# EAGLE library part EC2-3NU (library MMC Eagle)
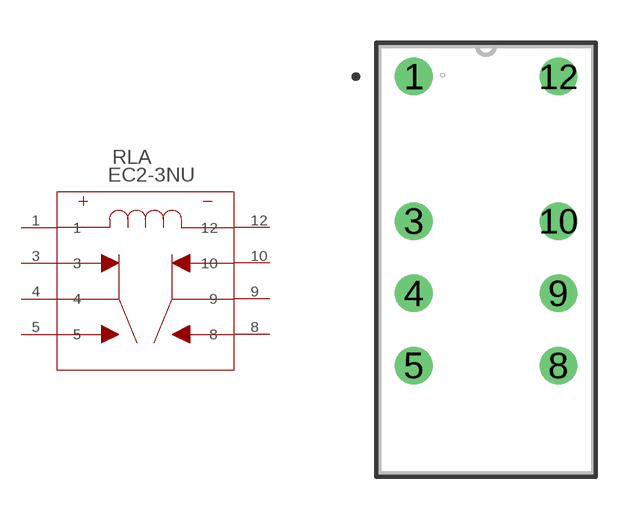
[diagram p4: symbol with the pads of RELAY8_EC2; footprint RELAY8_EC2]

Designator prefix RLA

## EC2-3NU (MANUFACTURER_PART_NUMBER: EC23NU; VENDOR: KEMET)  [RELAY8_EC2]
1  1  pas
3  3  pas
4  4  pas
5  5  pas
8  8  pas
9  9  pas
10  10  pas
12  12  pas

## Footprint RELAY8_EC2 (pad centres in mm)
drill 0.813 pad 1.321: 1 -5.08,12.903; 3 -5.08,7.823; 4 -5.08,5.283; 5 -5.08,2.743; 8 0,2.743; 9 0,5.283; 10 0,7.823; 12 0,12.903